# Altium integrated library Transistor.IntLib: 3457 symbols (part 50 of 78)
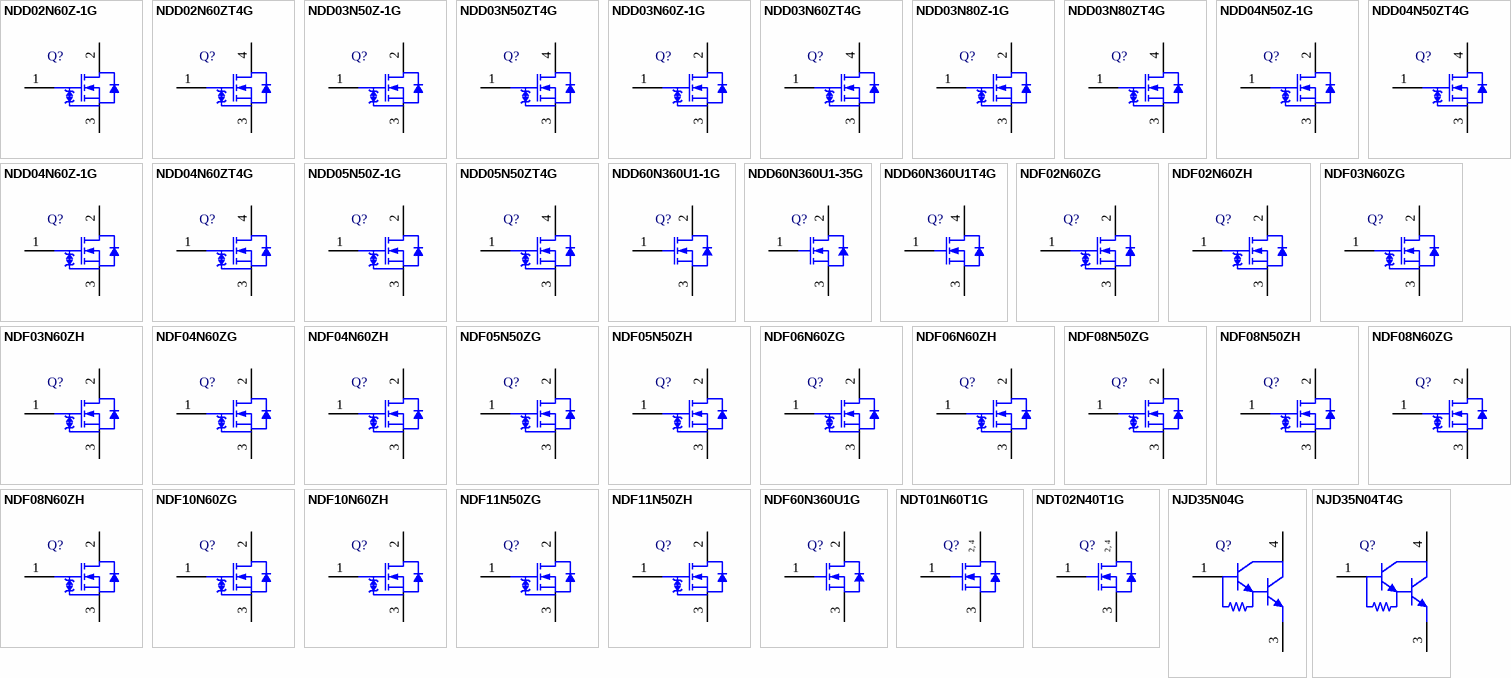
[diagram p143: symbols NDD02N60Z-1G to NJD35N04T4G]

## NDF04N60ZG
designator Q?
N-Channel Power MOSFET 600 V, 2 Ohm, 3-Pin TO-220, Pb-Free, Tube; Manufacturer: On Semiconductor; PartNumber: NDF04N60ZG; Channel Polarity: N Channel; Ciss Typ (pF): 535; Configuration: Single; Coss Typ (pF): 62; Crss Typ (pF): 14; PD Max (W): 30; Qrr Typ (nC): 1300; V(BR)DSS Min (V): 600; VGS(th) Max (V): 4.5; DatasheetVersion: Rev. 8; PackageVersion: Rev. K, 02/2009; PackageReference: TO-220-3-221D-03; PackageDescription: 3-Pin Flange Mount, Vertical Straight Lead, Body 10.295 x 4.7 mm, Pitch 2.54 mm; Package Type: TO-220 FULLPAK-3; Packing: Tube; RoHS: Pb-Free; VGS Max (V): 30; Mounting Technology: Through Hole; ComponentLink1Description: Manufacturer URL; ComponentLink1URL: http://www.onsemi.com/; ComponentLink2Description: Datasheet; ComponentLink2URL: http://www.onsemi.cn/pub_link/Collateral/NDF04N60Z-D.PDF; ComponentLink3Description: Package Specification; ComponentLink3URL: http://www.onsemi.com/pub_link/Collateral/221D-03.PDF
footprint ONSC-TO-220-3-221D-03 (FM, 3-Leads, Body 10.65x4.9mm, Pitch 2.54mm)
pins: 1 G, 2 D, 3 S

## NDF04N60ZH
designator Q?
N-Channel Power MOSFET 600 V, 2 Ohm, 3-Pin TO-220, Pb-Free, Tube; Manufacturer: On Semiconductor; PartNumber: NDF04N60ZH; Channel Polarity: N Channel; Ciss Typ (pF): 535; Configuration: Single; Coss Typ (pF): 62; Crss Typ (pF): 14; PD Max (W): 30; Qrr Typ (nC): 1300; V(BR)DSS Min (V): 600; VGS(th) Max (V): 4.5; DatasheetVersion: Rev. 8; PackageVersion: Rev. E, 04/2013; PackageReference: TO-220-3-221AH; PackageDescription: 3-Pin Flange Mount, Vertical Straight Lead, Body 10 x 4.5 mm, Pitch 2.54 mm; Package Type: TO-220 FULLPAK-3; Packing: Tube; RoHS: Pb-Free; VGS Max (V): 30; Mounting Technology: Through Hole; ComponentLink1Description: Manufacturer URL; ComponentLink1URL: http://www.onsemi.com/; ComponentLink2Description: Datasheet; ComponentLink2URL: http://www.onsemi.cn/pub_link/Collateral/NDF04N60Z-D.PDF; ComponentLink3Description: Package Specification; ComponentLink3URL: http://www.onsemi.com/pub_link/Collateral/221AH.PDF
footprint ONSC-TO-220-3-221AH (FM, 3-Leads, Body 10.3x4.7mm, Pitch 2.54mm)
pins: 1 G, 2 D, 3 S

## NDF05N50ZG
designator Q?
N-Channel Power MOSFET, 500 V, 1.5 Ohm, 3-Pin TO-220, Pb-Free, Tube; Manufacturer: On Semiconductor; PartNumber: NDF05N50ZG; Channel Polarity: N Channel; Ciss Typ (pF): 530; Configuration: Single; Coss Typ (pF): 68; Crss Typ (pF): 15; PD Max (W): 30; Qrr Typ (nC): 1250; V(BR)DSS Min (V): 500; VGS(th) Max (V): 4.5; DatasheetVersion: Rev. 7; PackageVersion: Rev. K, 02/2009; PackageReference: TO-220-3-221D-03; PackageDescription: 3-Pin Flange Mount, Vertical Straight Lead, Body 10.295 x 4.7 mm, Pitch 2.54 mm; Package Type: TO-220 FULLPAK-3; Packing: Tube; RoHS: Pb-Free; VGS Max (V): 30; Mounting Technology: Through Hole; ComponentLink1Description: Manufacturer URL; ComponentLink1URL: http://www.onsemi.com/; ComponentLink2Description: Datasheet; ComponentLink2URL: http://www.onsemi.cn/pub_link/Collateral/NDF05N50Z-D.PDF; ComponentLink3Description: Package Specification; ComponentLink3URL: http://www.onsemi.com/pub_link/Collateral/221D-03.PDF
footprint ONSC-TO-220-3-221D-03 (FM, 3-Leads, Body 10.65x4.9mm, Pitch 2.54mm)
pins: 1 G, 2 D, 3 S

## NDF05N50ZH
designator Q?
N-Channel Power MOSFET, 500 V, 1.5 Ohm, 3-Pin TO-220, Pb-Free, Tube; Manufacturer: On Semiconductor; PartNumber: NDF05N50ZH; Channel Polarity: N Channel; Ciss Typ (pF): 530; Configuration: Single; Coss Typ (pF): 68; Crss Typ (pF): 15; PD Max (W): 30; Qrr Typ (nC): 1250; V(BR)DSS Min (V): 500; VGS(th) Max (V): 4.5; DatasheetVersion: Rev. 7; PackageVersion: Rev. E, 04/2013; PackageReference: TO-220-3-221AH; PackageDescription: 3-Pin Flange Mount, Vertical Straight Lead, Body 10 x 4.5 mm, Pitch 2.54 mm; Package Type: TO-220 FULLPAK-3; Packing: Tube; RoHS: Pb-Free; VGS Max (V): 30; Mounting Technology: Through Hole; ComponentLink1Description: Manufacturer URL; ComponentLink1URL: http://www.onsemi.com/; ComponentLink2Description: Datasheet; ComponentLink2URL: http://www.onsemi.cn/pub_link/Collateral/NDF05N50Z-D.PDF; ComponentLink3Description: Package Specification; ComponentLink3URL: http://www.onsemi.com/pub_link/Collateral/221AH.PDF
footprint ONSC-TO-220-3-221AH (FM, 3-Leads, Body 10.3x4.7mm, Pitch 2.54mm)
pins: 1 G, 2 D, 3 S

## NDF06N60ZG
designator Q?
N-Channel Power MOSFET 600 V, 1.2 Ohm, 3-Pin TO-220, Pb-Free, Tube; Manufacturer: On Semiconductor; PartNumber: NDF06N60ZG; Channel Polarity: N Channel; Ciss Typ (pF): 923; Configuration: Single; Coss Typ (pF): 106; Crss Typ (pF): 23; PD Max (W): 35; Qrr Typ (nC): 2000; V(BR)DSS Min (V): 600; VGS Max (V): 30; VGS(th) Max (V): 4.5; DatasheetVersion: Rev. 6; PackageVersion: Rev. K, 02/2009; PackageReference: TO-220-3-221D-03; PackageDescription: 3-Pin Flange Mount, Vertical Straight Lead, Body 10.295 x 4.7 mm, Pitch 2.54 mm; Package Type: TO-220 FULLPAK-3; Packing: Tube; RoHS: Pb-Free; Mounting Technology: Through Hole; ComponentLink1Description: Manufacturer URL; ComponentLink1URL: http://www.onsemi.com/; ComponentLink2Description: Datasheet; ComponentLink2URL: http://www.onsemi.cn/pub_link/Collateral/NDF06N60Z-D.PDF; ComponentLink3Description: Package Specification; ComponentLink3URL: http://www.onsemi.com/pub_link/Collateral/221D-03.PDF
footprint ONSC-TO-220-3-221D-03 (FM, 3-Leads, Body 10.65x4.9mm, Pitch 2.54mm)
pins: 1 G, 2 D, 3 S

## NDF06N60ZH
designator Q?
N-Channel Power MOSFET 600 V, 1.2 Ohm, 3-Pin TO-220, Pb-Free, Tube; Manufacturer: On Semiconductor; PartNumber: NDF06N60ZH; Channel Polarity: N Channel; Ciss Typ (pF): 923; Configuration: Single; Coss Typ (pF): 106; Crss Typ (pF): 23; PD Max (W): 35; Qrr Typ (nC): 2000; V(BR)DSS Min (V): 600; VGS Max (V): 30; VGS(th) Max (V): 4.5; DatasheetVersion: Rev. 6; PackageVersion: Rev. E, 04/2013; PackageReference: TO-220-3-221AH; PackageDescription: 3-Pin Flange Mount, Vertical Straight Lead, Body 10 x 4.5 mm, Pitch 2.54 mm; Package Type: TO-220 FULLPAK-3; Packing: Tube; RoHS: Pb-Free; Mounting Technology: Through Hole; ComponentLink1Description: Manufacturer URL; ComponentLink1URL: http://www.onsemi.com/; ComponentLink2Description: Datasheet; ComponentLink2URL: http://www.onsemi.cn/pub_link/Collateral/NDF06N60Z-D.PDF; ComponentLink3Description: Package Specification; ComponentLink3URL: http://www.onsemi.com/pub_link/Collateral/221AH.PDF
footprint ONSC-TO-220-3-221AH (FM, 3-Leads, Body 10.3x4.7mm, Pitch 2.54mm)
pins: 1 G, 2 D, 3 S

## NDF08N50ZG
designator Q?
N-Channel Power MOSFET 500 V, 0.85 Ohm, 3-Pin TO-220, Pb-Free, Tube; Manufacturer: On Semiconductor; PartNumber: NDF08N50ZG; Channel Polarity: N Channel; Ciss Typ (pF): 912; Configuration: Single; Coss Typ (pF): 120; Crss Typ (pF): 27; PD Max (W): 35; Qrr Typ (nC): 1850; V(BR)DSS Min (V): 500; VGS Max (V): 30; VGS(th) Max (V): 4.5; DatasheetVersion: Rev. 5; PackageVersion: Rev. K, 02/2009; PackageReference: TO-220-3-221D-03; PackageDescription: 3-Pin Flange Mount, Vertical Straight Lead, Body 10.295 x 4.7 mm, Pitch 2.54 mm; Package Type: TO-220 FULLPAK-3; Packing: Tube; RoHS: Pb-Free; Mounting Technology: Through Hole; ComponentLink1Description: Manufacturer URL; ComponentLink1URL: http://www.onsemi.com/; ComponentLink2Description: Datasheet; ComponentLink2URL: http://www.onsemi.cn/pub_link/Collateral/NDF08N50Z-D.PDF; ComponentLink3Description: Package Specification; ComponentLink3URL: http://www.onsemi.com/pub_link/Collateral/221D-03.PDF
footprint ONSC-TO-220-3-221D-03 (FM, 3-Leads, Body 10.65x4.9mm, Pitch 2.54mm)
pins: 1 G, 2 D, 3 S

## NDF08N50ZH
designator Q?
N-Channel Power MOSFET 500 V, 0.85 Ohm, 3-Pin TO-220, Pb-Free, Tube; Manufacturer: On Semiconductor; PartNumber: NDF08N50ZH; Channel Polarity: N Channel; Ciss Typ (pF): 912; Configuration: Single; Coss Typ (pF): 120; Crss Typ (pF): 27; PD Max (W): 35; Qrr Typ (nC): 1850; V(BR)DSS Min (V): 500; VGS Max (V): 30; VGS(th) Max (V): 4.5; DatasheetVersion: Rev. 5; PackageVersion: Rev. E, 04/2013; PackageReference: TO-220-3-221AH; PackageDescription: 3-Pin Flange Mount, Vertical Straight Lead, Body 10 x 4.5 mm, Pitch 2.54 mm; Package Type: TO-220 FULLPAK-3; Packing: Tube; RoHS: Pb-Free; Mounting Technology: Through Hole; ComponentLink1Description: Manufacturer URL; ComponentLink1URL: http://www.onsemi.com/; ComponentLink2Description: Datasheet; ComponentLink2URL: http://www.onsemi.cn/pub_link/Collateral/NDF08N50Z-D.PDF; ComponentLink3Description: Package Specification; ComponentLink3URL: http://www.onsemi.com/pub_link/Collateral/221AH.PDF
footprint ONSC-TO-220-3-221AH (FM, 3-Leads, Body 10.3x4.7mm, Pitch 2.54mm)
pins: 1 G, 2 D, 3 S

## NDF08N60ZG
designator Q?
N-Channel Power MOSFET 600 V, 0.95 Ohm, 3-Pin TO-220, Pb-Free, Tube; Manufacturer: On Semiconductor; PartNumber: NDF08N60ZG; Channel Polarity: N Channel; Ciss Typ (pF): 1140; Configuration: Single; Coss Typ (pF): 129; Crss Typ (pF): 30; PD Max (W): 36; Qrr Typ (nC): 2200; V(BR)DSS Min (V): 600; VGS(th) Max (V): 4.5; DatasheetVersion: Rev. 3; PackageVersion: Rev. K, 02/2009; PackageReference: TO-220-3-221D-03; PackageDescription: 3-Pin Flange Mount, Vertical Straight Lead, Body 10.295 x 4.7 mm, Pitch 2.54 mm; Package Type: TO-220 FULLPAK-3; Packing: Tube; RoHS: Pb-Free; VGS Max (V): 30; Mounting Technology: Through Hole; ComponentLink1Description: Manufacturer URL; ComponentLink1URL: http://www.onsemi.com/; ComponentLink2Description: Datasheet; ComponentLink2URL: http://www.onsemi.cn/pub_link/Collateral/NDF08N60Z-D.PDF; ComponentLink3Description: Package Specification; ComponentLink3URL: http://www.onsemi.com/pub_link/Collateral/221D-03.PDF
footprint ONSC-TO-220-3-221D-03 (FM, 3-Leads, Body 10.65x4.9mm, Pitch 2.54mm)
pins: 1 G, 2 D, 3 S

## NDF08N60ZH
designator Q?
N-Channel Power MOSFET 600 V, 0.95 Ohm, 3-Pin TO-220, Pb-Free, Tube; Manufacturer: On Semiconductor; PartNumber: NDF08N60ZH; Channel Polarity: N Channel; Ciss Typ (pF): 1140; Configuration: Single; Coss Typ (pF): 129; Crss Typ (pF): 30; PD Max (W): 36; Qrr Typ (nC): 2200; V(BR)DSS Min (V): 600; VGS(th) Max (V): 4.5; DatasheetVersion: Rev. 3; PackageVersion: Rev. E, 04/2013; PackageReference: TO-220-3-221AH; PackageDescription: 3-Pin Flange Mount, Vertical Straight Lead, Body 10 x 4.5 mm, Pitch 2.54 mm; Package Type: TO-220 FULLPAK-3; Packing: Tube; RoHS: Pb-Free; VGS Max (V): 30; Mounting Technology: Through Hole; ComponentLink1Description: Manufacturer URL; ComponentLink1URL: http://www.onsemi.com/; ComponentLink2Description: Datasheet; ComponentLink2URL: http://www.onsemi.cn/pub_link/Collateral/NDF08N60Z-D.PDF; ComponentLink3Description: Package Specification; ComponentLink3URL: http://www.onsemi.com/pub_link/Collateral/221AH.PDF
footprint ONSC-TO-220-3-221AH (FM, 3-Leads, Body 10.3x4.7mm, Pitch 2.54mm)
pins: 1 G, 2 D, 3 S

## NDF10N60ZG
designator Q?
N-Channel Power MOSFET 600 V, 0.75 Ohm, 3-Pin TO-220, Pb-Free, Tube; Manufacturer: On Semiconductor; PartNumber: NDF10N60ZG; Channel Polarity: N Channel; Ciss Typ (pF): 1373; Configuration: Single; Coss Typ (pF): 150; Crss Typ (pF): 35; PD Max (W): 39; Qrr Typ (nC): 3000; V(BR)DSS Min (V): 600; VGS Max (V): 30; VGS(th) Max (V): 4.5; DatasheetVersion: Rev. 12; PackageVersion: Rev. K, 02/2009; PackageReference: TO-220-3-221D-03; PackageDescription: 3-Pin Flange Mount, Vertical Straight Lead, Body 10.295 x 4.7 mm, Pitch 2.54 mm; Package Type: TO-220 FULLPAK-3; Packing: Tube; RoHS: Pb-Free; Mounting Technology: Through Hole; ComponentLink1Description: Manufacturer URL; ComponentLink1URL: http://www.onsemi.com/; ComponentLink2Description: Datasheet; ComponentLink2URL: http://www.onsemi.cn/pub_link/Collateral/NDF10N60Z-D.PDF; ComponentLink3Description: Package Specification; ComponentLink3URL: http://www.onsemi.com/pub_link/Collateral/221D-03.PDF
footprint ONSC-TO-220-3-221D-03 (FM, 3-Leads, Body 10.65x4.9mm, Pitch 2.54mm)
pins: 1 G, 2 D, 3 S

## NDF10N60ZH
designator Q?
N-Channel Power MOSFET 600 V, 0.75 Ohm, 3-Pin TO-220, Pb-Free, Tube; Manufacturer: On Semiconductor; PartNumber: NDF10N60ZH; Channel Polarity: N Channel; Ciss Typ (pF): 1373; Configuration: Single; Coss Typ (pF): 150; Crss Typ (pF): 35; PD Max (W): 39; Qrr Typ (nC): 3000; V(BR)DSS Min (V): 600; VGS Max (V): 30; VGS(th) Max (V): 4.5; DatasheetVersion: Rev. 12; PackageVersion: Rev. E, 04/2013; PackageReference: TO-220-3-221AH; PackageDescription: 3-Pin Flange Mount, Vertical Straight Lead, Body 10 x 4.5 mm, Pitch 2.54 mm; Package Type: TO-220 FULLPAK-3; Packing: Tube; RoHS: Pb-Free; Mounting Technology: Through Hole; ComponentLink1Description: Manufacturer URL; ComponentLink1URL: http://www.onsemi.com/; ComponentLink2Description: Datasheet; ComponentLink2URL: http://www.onsemi.cn/pub_link/Collateral/NDF10N60Z-D.PDF; ComponentLink3Description: Package Specification; ComponentLink3URL: http://www.onsemi.com/pub_link/Collateral/221AH.PDF
footprint ONSC-TO-220-3-221AH (FM, 3-Leads, Body 10.3x4.7mm, Pitch 2.54mm)
pins: 1 G, 2 D, 3 S

## NDF11N50ZG
designator Q?
N-Channel Power MOSFET 500 V, 0.52 Ohm, 3-Pin TO-220, Pb-Free, Tube; Manufacturer: On Semiconductor; PartNumber: NDF11N50ZG; Channel Polarity: N Channel; Ciss Typ (pF): 1375; Configuration: Single; Coss Typ (pF): 166; Crss Typ (pF): 40; PD Max (W): 39; Qrr Typ (nC): 2500; V(BR)DSS Min (V): 500; VGS Max (V): 30; VGS(th) Max (V): 4.5; DatasheetVersion: Rev. 4; PackageVersion: Rev. K, 02/2009; PackageReference: TO-220-3-221D-03; PackageDescription: 3-Pin Flange Mount, Vertical Straight Lead, Body 10.295 x 4.7 mm, Pitch 2.54 mm; Package Type: TO-220 FULLPAK-3; Packing: Tube; RoHS: Pb-Free; Mounting Technology: Through Hole; ComponentLink1Description: Manufacturer URL; ComponentLink1URL: http://www.onsemi.com/; ComponentLink2Description: Datasheet; ComponentLink2URL: http://www.onsemi.cn/pub_link/Collateral/NDF11N50Z-D.PDF; ComponentLink3Description: Package Specification; ComponentLink3URL: http://www.onsemi.com/pub_link/Collateral/221D-03.PDF
footprint ONSC-TO-220-3-221D-03 (FM, 3-Leads, Body 10.65x4.9mm, Pitch 2.54mm)
pins: 1 G, 2 D, 3 S

## NDF11N50ZH
designator Q?
N-Channel Power MOSFET 500 V, 0.52 Ohm, 3-Pin TO-220, Pb-Free, Tube; Manufacturer: On Semiconductor; PartNumber: NDF11N50ZH; Channel Polarity: N Channel; Ciss Typ (pF): 1375; Configuration: Single; Coss Typ (pF): 166; Crss Typ (pF): 40; PD Max (W): 39; Qrr Typ (nC): 2500; V(BR)DSS Min (V): 500; VGS Max (V): 30; VGS(th) Max (V): 4.5; DatasheetVersion: Rev. 4; PackageVersion: Rev. E, 04/2013; PackageReference: TO-220-3-221AH; PackageDescription: 3-Pin Flange Mount, Vertical Straight Lead, Body 10 x 4.5 mm, Pitch 2.54 mm; Package Type: TO-220 FULLPAK-3; Packing: Tube; RoHS: Pb-Free; Mounting Technology: Through Hole; ComponentLink1Description: Manufacturer URL; ComponentLink1URL: http://www.onsemi.com/; ComponentLink2Description: Datasheet; ComponentLink2URL: http://www.onsemi.cn/pub_link/Collateral/NDF11N50Z-D.PDF; ComponentLink3Description: Package Specification; ComponentLink3URL: http://www.onsemi.com/pub_link/Collateral/221AH.PDF
footprint ONSC-TO-220-3-221AH (FM, 3-Leads, Body 10.3x4.7mm, Pitch 2.54mm)
pins: 1 G, 2 D, 3 S

## NDF60N360U1G
designator Q?
N-Channel Power MOSFET, 600 V, 360 mOhm, 3-Pin TO-220, Pb-Free, Tube; Manufacturer: On Semiconductor; PartNumber: NDF60N360U1G; Channel Polarity: N Channel; Ciss Typ (pF): 790; Configuration: Single; Coss Typ (pF): 47; Crss Typ (pF): 3; PD Max (W): 30; Qrr Typ (nC): 3600; V(BR)DSS Min (V): 600; VGS Max (V): 25; VGS(th) Max (V): 4; DatasheetVersion: Rev. 0; PackageVersion: Rev. E, 04/2013; PackageReference: TO-220-3-221AH; PackageDescription: 3-Pin Flange Mount, Vertical Straight Lead, Body 10 x 4.5 mm, Pitch 2.54 mm; Package Type: DPAK-3, IPAK-3, IPAK-4; Packing: Tube; RoHS: Pb-Free; Mounting Technology: Through Hole; ComponentLink1Description: Manufacturer URL; ComponentLink1URL: http://www.onsemi.com/; ComponentLink2Description: Datasheet; ComponentLink2URL: http://www.onsemi.com/pub_link/Collateral/NDF60N360U1-D.PDF; ComponentLink3Description: Package Specification; ComponentLink3URL: http://www.onsemi.com/pub_link/Collateral/221AH.PDF
footprint ONSC-TO-220-3-221AH (FM, 3-Leads, Body 10.3x4.7mm, Pitch 2.54mm)
pins: 1 G, 2 D, 3 S

## NDT01N60T1G
designator Q?
N-Channel Power MOSFET, 600 V, 8.5 Ohm, 4-Pin SOT-223, Pb-Free, Tape and Reel; Manufacturer: On Semiconductor; PartNumber: NDT01N60T1G; Channel Polarity: N Channel; Ciss Typ (pF): 160; Configuration: Single; Coss Typ (pF): 22; Crss Typ (pF): 4; PD Max (W): 2.5; Qrr Typ (nC): 288; V(BR)DSS Min (V): 600; VGS Max (V): 30; VGS(th) Max (V): 3.7; DatasheetVersion: Rev. 2; PackageVersion: Rev. N, 08/2009; PackageReference: SOT-223-4-318E-04; PackageDescription: 4-Pin Small Outline Transistor, Body 6.5 x 3.5 mm, Pitch 2.3 mm; Package Type: SOT-223-4 / TO-261-4; Packing: Tape and Reel; RoHS: Pb-Free; Mounting Technology: Surface Mount; ComponentLink1Description: Manufacturer URL; ComponentLink1URL: http://www.onsemi.com/; ComponentLink2Description: Datasheet; ComponentLink2URL: http://www.onsemi.cn/pub_link/Collateral/NDD01N60-D.PDF; ComponentLink3Description: Package Specification; ComponentLink3URL: http://www.onsemi.com/pub_link/Collateral/318E-04.PDF
footprint ONSC-SOT-223-4-318E-04_V (SOT223, 4-Leads, Body 6.5x3.5mm, Pitch 2.3mm)
pins: 1 G, 2 D, 3 S, 4 D
text: 2, 4

## NDT02N40T1G
designator Q?
N-Channel Power MOSFET, 400 V, 5.5 Ohm, 4-Pin SOT-223, Pb-Free, Tape and Reel; Manufacturer: On Semiconductor; PartNumber: NDT02N40T1G; Channel Polarity: N Channel; Ciss Typ (pF): 121; Configuration: Single; Coss Typ (pF): 16; Crss Typ (pF): 3; PD Max (W): 2; Qrr Typ (nC): 260; V(BR)DSS Min (V): 400; VGS Max (V): 20; DatasheetVersion: Rev. 3; PackageVersion: Rev. N, 08/2009; PackageReference: SOT-223-4-318E-04; PackageDescription: 4-Pin Small Outline Transistor, Body 6.5 x 3.5 mm, Pitch 2.3 mm; Supplier 1: Newark; Supplier Part Number 1: 97W6248; Supplier 2: Mouser; Supplier Part Number 2: 863-NDT02N40T1G; Package Type: SOT-223-4 / TO-261-4; Packing: Tape and Reel; RoHS: Pb-Free; VGS(th) Max (V): 2; Mounting Technology: Surface Mount; ComponentLink1Description: Manufacturer URL; ComponentLink1URL: http://www.onsemi.com/; ComponentLink2Description: Datasheet; ComponentLink2URL: http://www.onsemi.com/pub_link/Collateral/NDD02N40-D.PDF; ComponentLink3Description: Package Specification; ComponentLink3URL: http://www.onsemi.com/pub_link/Collateral/318E-04.PDF
footprint ONSC-SOT-223-4-318E-04_V (SOT223, 4-Leads, Body 6.5x3.5mm, Pitch 2.3mm)
pins: 1 G, 2 D, 3 S, 4 D
text: 2, 4

## NJD35N04G
designator Q?
NPN Darlington Power Transistor, 3-Pin D2PAK, Pb-Free, Tube; Manufacturer: On Semiconductor; PartNumber: NJD35N04G; IC Continuous (A): 4; DatasheetVersion: Rev. 5; PackageVersion: Rev. E, 02/2014; PackageReference: DPAK-3-369C-01; PackageDescription: 3-Pin Flange Mount, Body 6.54 x 6.095 mm, Pitch 2.29 mm; Supplier 1: Digi-Key; Supplier Part Number 1: NJD35N04GOS-ND; Supplier 2: Farnell; Supplier Part Number 2: 1899297; Supplier 3: Newark; Supplier Part Number 3: 02M9866; Supplier 4: Mouser; Supplier Part Number 4: 863-NJD35N04G; Packing: Tube; Polarity: NPN; RoHS: TRUE; Mounting Technology: Surface Mount; ComponentLink1Description: Manufacturer URL; ComponentLink1URL: http://www.onsemi.com/; ComponentLink2Description: Datasheet; ComponentLink2URL: http://www.onsemi.cn/pub_link/Collateral/NJD35N04-D.PDF; ComponentLink3Description: Package Specification; ComponentLink3URL: http://www.onsemi.cn/pub_link/Collateral/369C.PDF
footprint ONSC-DPAK-3-369C-01_V (DPAK, 3-Leads, Body 6.54x6.095mm, Pitch 2.29mm)
pins: 1 B, 3 E, 4 C

## NJD35N04T4G
designator Q?
NPN Darlington Power Transistor, 3-Pin D2PAK, Pb-Free, Tape and Reel; Manufacturer: On Semiconductor; PartNumber: NJD35N04T4G; IC Continuous (A): 4; DatasheetVersion: Rev. 5; PackageVersion: Rev. E, 02/2014; PackageReference: DPAK-3-369C-01; PackageDescription: 3-Pin Flange Mount, Body 6.54 x 6.095 mm, Pitch 2.29 mm; Supplier 1: Digi-Key; Supplier Part Number 1: NJD35N04T4G-ND; Supplier 2: Newark; Supplier Part Number 2: 02M9867; Supplier 3: Mouser; Supplier Part Number 3: 863-NJD35N04T4G; Packing: Tape and Reel; Polarity: NPN; RoHS: TRUE; Mounting Technology: Surface Mount; ComponentLink1Description: Manufacturer URL; ComponentLink1URL: http://www.onsemi.com/; ComponentLink2Description: Datasheet; ComponentLink2URL: http://www.onsemi.cn/pub_link/Collateral/NJD35N04-D.PDF; ComponentLink3Description: Package Specification; ComponentLink3URL: http://www.onsemi.cn/pub_link/Collateral/369C.PDF
footprint ONSC-DPAK-3-369C-01_V (DPAK, 3-Leads, Body 6.54x6.095mm, Pitch 2.29mm)
pins: 1 B, 3 E, 4 C

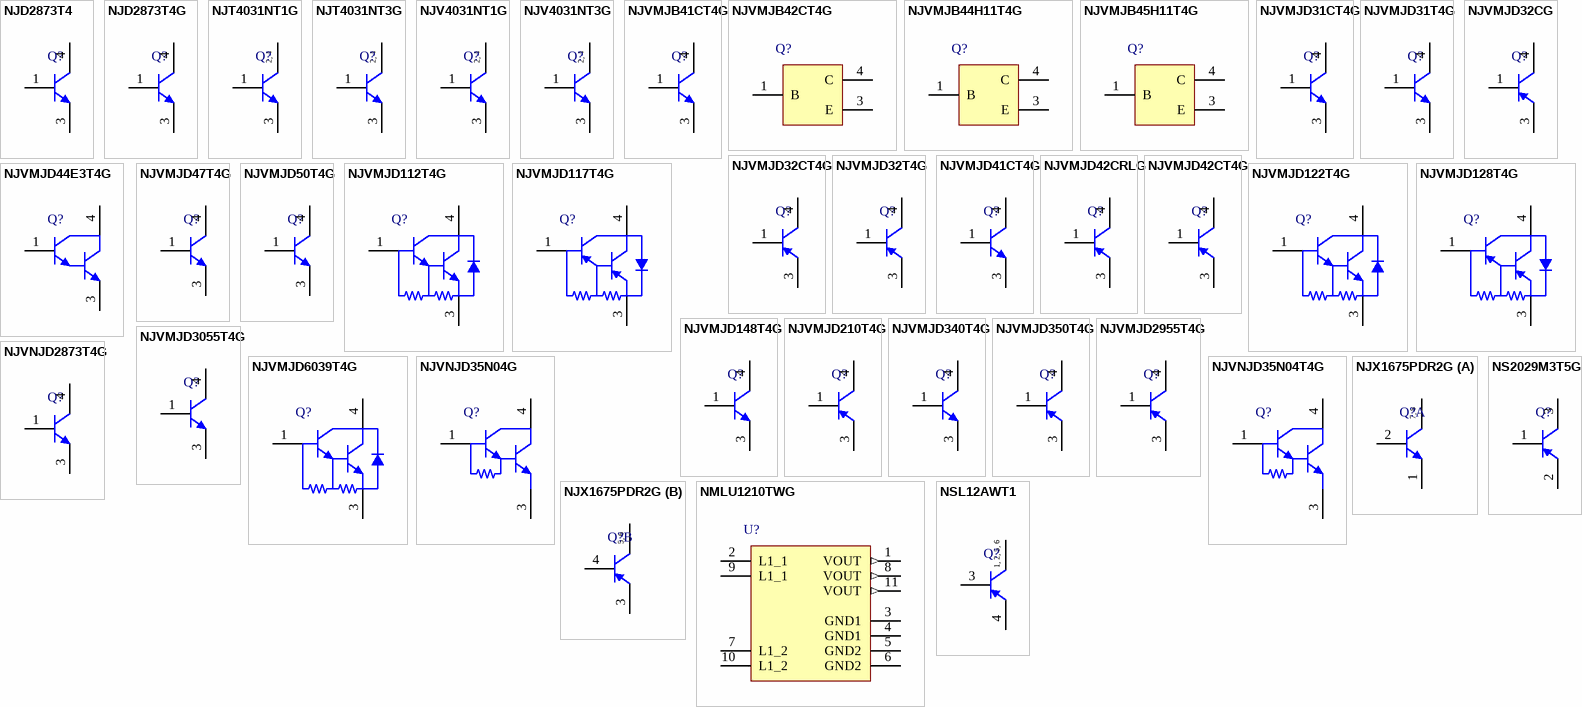
[diagram p59: symbols NJD2873T4 to NSL12AWT1]

## NJD2873T4
designator Q?
Power Transistor, NPN Silicon for Surface Mount Application, 3-Pin DPAK, Tape and Reel; Manufacturer: On Semiconductor; PartNumber: NJD2873T4; Note: 0; fT Min (MHz): 65; IC Continuous (A): 2; DatasheetVersion: Rev. 15; PackageVersion: Rev. E, 02/2014; PackageReference: DPAK-3-369C-01; PackageDescription: 3-Pin Flange Mount, Body 6.54 x 6.095 mm, Pitch 2.29 mm; Packing: Tape and Reel; Polarity: NPN; RoHS: FALSE; Mounting Technology: Surface Mount; ComponentLink1Description: Manufacturer URL; ComponentLink1URL: http://www.onsemi.com/; ComponentLink2Description: Datasheet; ComponentLink2URL: http://www.onsemi.com/pub_link/Collateral/NJD2873T4-D.PDF; ComponentLink3Description: Package Specification; ComponentLink3URL: http://www.onsemi.cn/pub_link/Collateral/369C.PDF
footprint ONSC-DPAK-3-369C-01_V (DPAK, 3-Leads, Body 6.54x6.095mm, Pitch 2.29mm)
pins: 1 B, 3 E, 4 C

## NJD2873T4G
designator Q?
Power Transistor, NPN Silicon for Surface Mount Application, 3-Pin DPAK, Pb-Free, Tape and Reel; Manufacturer: On Semiconductor; PartNumber: NJD2873T4G; fT Min (MHz): 65; IC Continuous (A): 2; DatasheetVersion: Rev. 15; PackageVersion: Rev. E, 02/2014; PackageReference: DPAK-3-369C-01; PackageDescription: 3-Pin Flange Mount, Body 6.54 x 6.095 mm, Pitch 2.29 mm; Supplier 1: Digi-Key; Supplier Part Number 1: NJD2873T4GOSTR-ND; Supplier 2: Digi-Key; Supplier Part Number 2: NJD2873T4GOSCT-ND; Supplier 3: Digi-Key; Supplier Part Number 3: NJD2873T4GOSDKR-ND; Supplier 4: Newark; Supplier Part Number 4: 83H7725; Supplier 5: Newark; Supplier Part Number 5: 54T9969; Supplier 6: Mouser; Supplier Part Number 6: 863-NJD2873T4G; Packing: Tape and Reel; Polarity: NPN; RoHS: TRUE; Mounting Technology: Surface Mount; ComponentLink1Description: Manufacturer URL; ComponentLink1URL: http://www.onsemi.com/; ComponentLink2Description: Datasheet; ComponentLink2URL: http://www.onsemi.com/pub_link/Collateral/NJD2873T4-D.PDF; ComponentLink3Description: Package Specification; ComponentLink3URL: http://www.onsemi.cn/pub_link/Collateral/369C.PDF
footprint ONSC-DPAK-3-369C-01_V (DPAK, 3-Leads, Body 6.54x6.095mm, Pitch 2.29mm)
pins: 1 B, 3 E, 4 C

## NJT4031NT1G
designator Q?
Bipolar Power Transistor, NPN Silicon, 4-Pin SOT-223, Pb-Free, Tape and Reel; Manufacturer: On Semiconductor; PartNumber: NJT4031NT1G; IC Continuous (A): 3; DatasheetVersion: Rev. 4; PackageVersion: Rev. N, 08/2009; PackageReference: SOT-223-4-318E-04; PackageDescription: 4-Pin Small Outline Transistor, Body 6.5 x 3.5 mm, Pitch 2.3 mm; Supplier 1: Digi-Key; Supplier Part Number 1: NJT4031NT1GOSTR-ND; Supplier 2: Digi-Key; Supplier Part Number 2: NJT4031NT1GOSCT-ND; Supplier 3: Digi-Key; Supplier Part Number 3: NJT4031NT1GOSDKR-ND; Supplier 4: Farnell; Supplier Part Number 4: 1517646; Supplier 5: Newark; Supplier Part Number 5: 57M9869; Supplier 6: Mouser; Supplier Part Number 6: 863-NJT4031NT1G; Packing: Tape and Reel; Polarity: NPN; RoHS: TRUE; Mounting Technology: Surface Mount; ComponentLink1Description: Manufacturer URL; ComponentLink1URL: http://www.onsemi.com/; ComponentLink2Description: Datasheet; ComponentLink2URL: http://www.onsemi.com/pub_link/Collateral/NJT4031N-D.PDF; ComponentLink3Description: Package Specification; ComponentLink3URL: http://www.onsemi.com/pub_link/Collateral/318E-04.PDF
footprint ONSC-SOT-223-4-318E-04_V (SOT223, 4-Leads, Body 6.5x3.5mm, Pitch 2.3mm)
pins: 1 B, 2 C, 3 E, 4 C
text: 2, 4

## NJT4031NT3G
designator Q?
Bipolar Power Transistor, NPN Silicon, 4-Pin SOT-223, Pb-Free, Tape and Reel; Manufacturer: On Semiconductor; PartNumber: NJT4031NT3G; IC Continuous (A): 3; DatasheetVersion: Rev. 4; PackageVersion: Rev. N, 08/2009; PackageReference: SOT-223-4-318E-04; PackageDescription: 4-Pin Small Outline Transistor, Body 6.5 x 3.5 mm, Pitch 2.3 mm; Supplier 1: Digi-Key; Supplier Part Number 1: NJT4031NT3G-ND; Supplier 2: Mouser; Supplier Part Number 2: 863-NJT4031NT3G; Packing: Tape and Reel; Polarity: NPN; RoHS: TRUE; Mounting Technology: Surface Mount; ComponentLink1Description: Manufacturer URL; ComponentLink1URL: http://www.onsemi.com/; ComponentLink2Description: Datasheet; ComponentLink2URL: http://www.onsemi.com/pub_link/Collateral/NJT4031N-D.PDF; ComponentLink3Description: Package Specification; ComponentLink3URL: http://www.onsemi.com/pub_link/Collateral/318E-04.PDF
footprint ONSC-SOT-223-4-318E-04_V (SOT223, 4-Leads, Body 6.5x3.5mm, Pitch 2.3mm)
pins: 1 B, 2 C, 3 E, 4 C
text: 2, 4

## NJV4031NT1G
designator Q?
Bipolar Power Transistor, NPN Silicon, 4-Pin SOT-223, Pb-Free, Tape and Reel; Manufacturer: On Semiconductor; PartNumber: NJV4031NT1G; IC Continuous (A): 3; DatasheetVersion: Rev. 4; PackageVersion: Rev. N, 08/2009; PackageReference: SOT-223-4-318E-04; PackageDescription: 4-Pin Small Outline Transistor, Body 6.5 x 3.5 mm, Pitch 2.3 mm; Supplier 1: Newark; Supplier Part Number 1: 97W6314; Supplier 2: Mouser; Supplier Part Number 2: 863-NJV4031NT1G; Packing: Tape and Reel; Polarity: NPN; RoHS: TRUE; Mounting Technology: Surface Mount; ComponentLink1Description: Manufacturer URL; ComponentLink1URL: http://www.onsemi.com/; ComponentLink2Description: Datasheet; ComponentLink2URL: http://www.onsemi.com/pub_link/Collateral/NJT4031N-D.PDF; ComponentLink3Description: Package Specification; ComponentLink3URL: http://www.onsemi.com/pub_link/Collateral/318E-04.PDF
footprint ONSC-SOT-223-4-318E-04_V (SOT223, 4-Leads, Body 6.5x3.5mm, Pitch 2.3mm)
pins: 1 B, 2 C, 3 E, 4 C
text: 2, 4

## NJV4031NT3G
designator Q?
Bipolar Power Transistor, NPN Silicon, 4-Pin SOT-223, Pb-Free, Tape and Reel; Manufacturer: On Semiconductor; PartNumber: NJV4031NT3G; IC Continuous (A): 3; DatasheetVersion: Rev. 4; PackageVersion: Rev. N, 08/2009; PackageReference: SOT-223-4-318E-04; PackageDescription: 4-Pin Small Outline Transistor, Body 6.5 x 3.5 mm, Pitch 2.3 mm; Supplier 1: Newark; Supplier Part Number 1: 97W6315; Supplier 2: Mouser; Supplier Part Number 2: 863-NJV4031NT3G; Packing: Tape and Reel; Polarity: NPN; RoHS: TRUE; Mounting Technology: Surface Mount; ComponentLink1Description: Manufacturer URL; ComponentLink1URL: http://www.onsemi.com/; ComponentLink2Description: Datasheet; ComponentLink2URL: http://www.onsemi.com/pub_link/Collateral/NJT4031N-D.PDF; ComponentLink3Description: Package Specification; ComponentLink3URL: http://www.onsemi.com/pub_link/Collateral/318E-04.PDF
footprint ONSC-SOT-223-4-318E-04_V (SOT223, 4-Leads, Body 6.5x3.5mm, Pitch 2.3mm)
pins: 1 B, 2 C, 3 E, 4 C
text: 2, 4

## NJVMJB41CT4G
designator Q?
Complementary Silicon Plastic Power Transistor, 3-Pin D2PAK, Pb-Free, Tape and Reel; Manufacturer: On Semiconductor; PartNumber: NJVMJB41CT4G; fT Min (MHz): 3; IC Continuous (A): 6; Polarity: NPN; DatasheetVersion: Rev. 4; PackageVersion: Rev. K, 09/2008; PackageReference: D2PAK-3-418B-04; PackageDescription: 3-Pin Flange Mount, Body 9.145 x 9.97 mm, Pitch 2.54 mm; Supplier 1: Digi-Key; Supplier Part Number 1: NJVMJB41CT4G-ND; Supplier 2: Mouser; Supplier Part Number 2: 863-NJVMJB41CT4G; Packing: Tape and Reel; RoHS: TRUE; Mounting Technology: Surface Mount; ComponentLink1Description: Manufacturer URL; ComponentLink1URL: http://www.onsemi.com/; ComponentLink2Description: Datasheet; ComponentLink2URL: http://www.onsemi.com/pub_link/Collateral/MJB41C-D.PDF; ComponentLink3Description: Package Specification; ComponentLink3URL: http://www.onsemi.com/pub_link/Collateral/418B-04.PDF
footprint ONSC-D2PAK-3-418B-04_V (DPAK, 3-Leads, Body 9.97x9.145mm, Pitch 2.54mm)
pins: 1 B, 3 E, 4 C

## NJVMJB42CT4G
designator Q?
Complementary Silicon Plastic Power Transistor, 3-Pin D2PAK, Pb-Free, Tape and Reel; Manufacturer: On Semiconductor; PartNumber: NJVMJB42CT4G; fT Min (MHz): 3; IC Continuous (A): 6; Polarity: PNP; DatasheetVersion: Rev. 4; PackageVersion: Rev. K, 09/2008; PackageReference: D2PAK-3-418B-04; PackageDescription: 3-Pin Flange Mount, Body 9.145 x 9.97 mm, Pitch 2.54 mm; Supplier 1: Digi-Key; Supplier Part Number 1: NJVMJB42CT4G-ND; Supplier 2: Mouser; Supplier Part Number 2: 863-NJVMJB42CT4G; Packing: Tape and Reel; RoHS: TRUE; Mounting Technology: Surface Mount; ComponentLink1Description: Manufacturer URL; ComponentLink1URL: http://www.onsemi.com/; ComponentLink2Description: Datasheet; ComponentLink2URL: http://www.onsemi.com/pub_link/Collateral/MJB41C-D.PDF; ComponentLink3Description: Package Specification; ComponentLink3URL: http://www.onsemi.com/pub_link/Collateral/418B-04.PDF
footprint ONSC-D2PAK-3-418B-04_V (DPAK, 3-Leads, Body 9.97x9.145mm, Pitch 2.54mm)
pins: 1 B, 3 E, 4 C

## NJVMJB44H11T4G
designator Q?
Complementary Power Transistor, 3-Pin D2PAK, Pb-Free, Tape and Reel; Manufacturer: On Semiconductor; PartNumber: NJVMJB44H11T4G; IC Continuous (A): 10; Polarity: NPN; DatasheetVersion: Rev. 5; PackageVersion: Rev. K, 09/2008; PackageReference: D2PAK-3-418B-04; PackageDescription: 3-Pin Flange Mount, Body 9.145 x 9.97 mm, Pitch 2.54 mm; Supplier 1: Digi-Key; Supplier Part Number 1: NJVMJB44H11T4G-ND; Supplier 2: Mouser; Supplier Part Number 2: 863-NJVMJB44H11T4G; Packing: Tape and Reel; RoHS: TRUE; Mounting Technology: Surface Mount; ComponentLink1Description: Manufacturer URL; ComponentLink1URL: http://www.onsemi.com/; ComponentLink2Description: Datasheet; ComponentLink2URL: http://www.onsemi.com/pub_link/Collateral/MJB44H11-D.PDF; ComponentLink3Description: Package Specification; ComponentLink3URL: http://www.onsemi.com/pub_link/Collateral/418B-04.PDF
footprint ONSC-D2PAK-3-418B-04_V (DPAK, 3-Leads, Body 9.97x9.145mm, Pitch 2.54mm)
pins: 1 B, 3 E, 4 C

## NJVMJB45H11T4G
designator Q?
Complementary Power Transistor, 3-Pin D2PAK, Pb-Free, Tape and Reel; Manufacturer: On Semiconductor; PartNumber: NJVMJB45H11T4G; IC Continuous (A): 10; Polarity: PNP; DatasheetVersion: Rev. 5; PackageVersion: Rev. K, 09/2008; PackageReference: D2PAK-3-418B-04; PackageDescription: 3-Pin Flange Mount, Body 9.145 x 9.97 mm, Pitch 2.54 mm; Supplier 1: Digi-Key; Supplier Part Number 1: NJVMJB45H11T4G-ND; Supplier 2: Mouser; Supplier Part Number 2: 863-NJVMJB45H11T4G; Packing: Tape and Reel; RoHS: TRUE; Mounting Technology: Surface Mount; ComponentLink1Description: Manufacturer URL; ComponentLink1URL: http://www.onsemi.com/; ComponentLink2Description: Datasheet; ComponentLink2URL: http://www.onsemi.com/pub_link/Collateral/MJB44H11-D.PDF; ComponentLink3Description: Package Specification; ComponentLink3URL: http://www.onsemi.com/pub_link/Collateral/418B-04.PDF
footprint ONSC-D2PAK-3-418B-04_V (DPAK, 3-Leads, Body 9.97x9.145mm, Pitch 2.54mm)
pins: 1 B, 3 E, 4 C

## NJVMJD31CT4G
designator Q?
Complementary Power Transistor, 3-Pin DPAK, Pb-Free, Tape and Reel; Manufacturer: On Semiconductor; PartNumber: NJVMJD31CT4G; fT Min (MHz): 3; Polarity: NPN; DatasheetVersion: Rev. 13; PackageVersion: Rev. E, 02/2014; PackageReference: DPAK-3-369C-01; PackageDescription: 3-Pin Flange Mount, Body 6.54 x 6.095 mm, Pitch 2.29 mm; Supplier 1: Digi-Key; Supplier Part Number 1: NJVMJD31CT4GOSTR-ND; Supplier 2: Digi-Key; Supplier Part Number 2: NJVMJD31CT4GOSCT-ND; Supplier 3: Digi-Key; Supplier Part Number 3: NJVMJD31CT4GOSDKR-ND; Supplier 4: Farnell; Supplier Part Number 4: 2317567; Supplier 5: Newark; Supplier Part Number 5: 85W3174; Supplier 6: Newark; Supplier Part Number 6: 90W9283; Supplier 7: Newark; Supplier Part Number 7: 76T6460; Supplier 8: Mouser; Supplier Part Number 8: 863-NJVMJD31CT4G; IC Continuous (A): 3; Packing: Tape and Reel; RoHS: TRUE; Mounting Technology: Surface Mount; ComponentLink1Description: Manufacturer URL; ComponentLink1URL: http://www.onsemi.com/; ComponentLink2Description: Datasheet; ComponentLink2URL: http://www.onsemi.cn/pub_link/Collateral/MJD31-D.PDF; ComponentLink3Description: Package Specification; ComponentLink3URL: http://www.onsemi.cn/pub_link/Collateral/369C.PDF
footprint ONSC-DPAK-3-369C-01_V (DPAK, 3-Leads, Body 6.54x6.095mm, Pitch 2.29mm)
pins: 1 B, 3 E, 4 C

## NJVMJD31T4G
designator Q?
Complementary Power Transistor, 3-Pin DPAK, Pb-Free, Tape and Reel; Manufacturer: On Semiconductor; PartNumber: NJVMJD31T4G; fT Min (MHz): 3; Polarity: NPN; DatasheetVersion: Rev. 13; PackageVersion: Rev. E, 02/2014; PackageReference: DPAK-3-369C-01; PackageDescription: 3-Pin Flange Mount, Body 6.54 x 6.095 mm, Pitch 2.29 mm; Supplier 1: Newark; Supplier Part Number 1: 97W6308; Supplier 2: Mouser; Supplier Part Number 2: 863-NJVMJD31T4G; IC Continuous (A): 3; Packing: Tape and Reel; RoHS: TRUE; Mounting Technology: Surface Mount; ComponentLink1Description: Manufacturer URL; ComponentLink1URL: http://www.onsemi.com/; ComponentLink2Description: Datasheet; ComponentLink2URL: http://www.onsemi.cn/pub_link/Collateral/MJD31-D.PDF; ComponentLink3Description: Package Specification; ComponentLink3URL: http://www.onsemi.cn/pub_link/Collateral/369C.PDF
footprint ONSC-DPAK-3-369C-01_V (DPAK, 3-Leads, Body 6.54x6.095mm, Pitch 2.29mm)
pins: 1 B, 3 E, 4 C

## NJVMJD32CG
designator Q?
Complementary Power Transistor, 3-Pin DPAK, Pb-Free, Tube; Manufacturer: On Semiconductor; PartNumber: NJVMJD32CG; fT Min (MHz): 3; Polarity: PNP; DatasheetVersion: Rev. 13; PackageVersion: Rev. E, 02/2014; PackageReference: DPAK-3-369C-01; PackageDescription: 3-Pin Flange Mount, Body 6.54 x 6.095 mm, Pitch 2.29 mm; Supplier 1: Digi-Key; Supplier Part Number 1: NJVMJD32CG-ND; Supplier 2: Mouser; Supplier Part Number 2: 863-NJVMJD32CG; IC Continuous (A): 3; Packing: Tube; RoHS: TRUE; Mounting Technology: Surface Mount; ComponentLink1Description: Manufacturer URL; ComponentLink1URL: http://www.onsemi.com/; ComponentLink2Description: Datasheet; ComponentLink2URL: http://www.onsemi.cn/pub_link/Collateral/MJD31-D.PDF; ComponentLink3Description: Package Specification; ComponentLink3URL: http://www.onsemi.cn/pub_link/Collateral/369C.PDF
footprint ONSC-DPAK-3-369C-01_V (DPAK, 3-Leads, Body 6.54x6.095mm, Pitch 2.29mm)
pins: 1 B, 3 E, 4 C

## NJVMJD32CT4G
designator Q?
Complementary Power Transistor, 3-Pin DPAK, Pb-Free, Tape and Reel; Manufacturer: On Semiconductor; PartNumber: NJVMJD32CT4G; fT Min (MHz): 3; Polarity: PNP; DatasheetVersion: Rev. 13; PackageVersion: Rev. E, 02/2014; PackageReference: DPAK-3-369C-01; PackageDescription: 3-Pin Flange Mount, Body 6.54 x 6.095 mm, Pitch 2.29 mm; Supplier 1: Digi-Key; Supplier Part Number 1: NJVMJD32CT4G-ND; Supplier 2: Newark; Supplier Part Number 2: 65T1469; Supplier 3: Mouser; Supplier Part Number 3: 863-NJVMJD32CT4G; IC Continuous (A): 3; Packing: Tape and Reel; RoHS: TRUE; Mounting Technology: Surface Mount; ComponentLink1Description: Manufacturer URL; ComponentLink1URL: http://www.onsemi.com/; ComponentLink2Description: Datasheet; ComponentLink2URL: http://www.onsemi.cn/pub_link/Collateral/MJD31-D.PDF; ComponentLink3Description: Package Specification; ComponentLink3URL: http://www.onsemi.cn/pub_link/Collateral/369C.PDF
footprint ONSC-DPAK-3-369C-01_V (DPAK, 3-Leads, Body 6.54x6.095mm, Pitch 2.29mm)
pins: 1 B, 3 E, 4 C

## NJVMJD32T4G
designator Q?
Complementary Power Transistor, 3-Pin DPAK, Pb-Free, Tape and Reel; Manufacturer: On Semiconductor; PartNumber: NJVMJD32T4G; fT Min (MHz): 3; Polarity: PNP; DatasheetVersion: Rev. 13; PackageVersion: Rev. E, 02/2014; PackageReference: DPAK-3-369C-01; PackageDescription: 3-Pin Flange Mount, Body 6.54 x 6.095 mm, Pitch 2.29 mm; Supplier 1: Newark; Supplier Part Number 1: 97W6309; Supplier 2: Mouser; Supplier Part Number 2: 863-NJVMJD32T4G; IC Continuous (A): 3; Packing: Tape and Reel; RoHS: TRUE; Mounting Technology: Surface Mount; ComponentLink1Description: Manufacturer URL; ComponentLink1URL: http://www.onsemi.com/; ComponentLink2Description: Datasheet; ComponentLink2URL: http://www.onsemi.cn/pub_link/Collateral/MJD31-D.PDF; ComponentLink3Description: Package Specification; ComponentLink3URL: http://www.onsemi.cn/pub_link/Collateral/369C.PDF
footprint ONSC-DPAK-3-369C-01_V (DPAK, 3-Leads, Body 6.54x6.095mm, Pitch 2.29mm)
pins: 1 B, 3 E, 4 C

## NJVMJD41CT4G
designator Q?
Complementary Power Transistor, 3-Pin DPAK, Pb-Free, Tape and Reel; Manufacturer: On Semiconductor; PartNumber: NJVMJD41CT4G; fT Min (MHz): 3; IC Continuous (A): 6; Polarity: NPN; DatasheetVersion: Rev. 12; PackageVersion: Rev. E, 02/2014; PackageReference: DPAK-3-369C-01; PackageDescription: 3-Pin Flange Mount, Body 6.54 x 6.095 mm, Pitch 2.29 mm; Supplier 1: Digi-Key; Supplier Part Number 1: NJVMJD41CT4G-ND; Supplier 2: Newark; Supplier Part Number 2: 76T6464; Supplier 3: Mouser; Supplier Part Number 3: 863-NJVMJD41CT4G; Packing: Tape and Reel; RoHS: TRUE; Mounting Technology: Surface Mount; ComponentLink1Description: Manufacturer URL; ComponentLink1URL: http://www.onsemi.com/; ComponentLink2Description: Datasheet; ComponentLink2URL: http://www.onsemi.cn/pub_link/Collateral/MJD41C-D.PDF; ComponentLink3Description: Package Specification; ComponentLink3URL: http://www.onsemi.cn/pub_link/Collateral/369C.PDF
footprint ONSC-DPAK-3-369C-01_V (DPAK, 3-Leads, Body 6.54x6.095mm, Pitch 2.29mm)
pins: 1 B, 3 E, 4 C

## NJVMJD42CRLG
designator Q?
Complementary Power Transistor, 3-Pin DPAK, Pb-Free, Tape and Reel; Manufacturer: On Semiconductor; PartNumber: NJVMJD42CRLG; fT Min (MHz): 3; IC Continuous (A): 6; Polarity: PNP; DatasheetVersion: Rev. 12; PackageVersion: Rev. E, 02/2014; PackageReference: DPAK-3-369C-01; PackageDescription: 3-Pin Flange Mount, Body 6.54 x 6.095 mm, Pitch 2.29 mm; Supplier 1: Newark; Supplier Part Number 1: 97W6310; Supplier 2: Mouser; Supplier Part Number 2: 863-NJVMJD42CRLG; Packing: Tape and Reel; RoHS: TRUE; Mounting Technology: Surface Mount; ComponentLink1Description: Manufacturer URL; ComponentLink1URL: http://www.onsemi.com/; ComponentLink2Description: Datasheet; ComponentLink2URL: http://www.onsemi.cn/pub_link/Collateral/MJD41C-D.PDF; ComponentLink3Description: Package Specification; ComponentLink3URL: http://www.onsemi.cn/pub_link/Collateral/369C.PDF
footprint ONSC-DPAK-3-369C-01_V (DPAK, 3-Leads, Body 6.54x6.095mm, Pitch 2.29mm)
pins: 1 B, 3 E, 4 C

## NJVMJD42CT4G
designator Q?
Complementary Power Transistor, 3-Pin DPAK, Pb-Free, Tape and Reel; Manufacturer: On Semiconductor; PartNumber: NJVMJD42CT4G; fT Min (MHz): 3; IC Continuous (A): 6; Polarity: PNP; DatasheetVersion: Rev. 12; PackageVersion: Rev. E, 02/2014; PackageReference: DPAK-3-369C-01; PackageDescription: 3-Pin Flange Mount, Body 6.54 x 6.095 mm, Pitch 2.29 mm; Supplier 1: Digi-Key; Supplier Part Number 1: NJVMJD42CT4G-ND; Supplier 2: Mouser; Supplier Part Number 2: 863-NJVMJD42CT4G; Packing: Tape and Reel; RoHS: TRUE; Mounting Technology: Surface Mount; ComponentLink1Description: Manufacturer URL; ComponentLink1URL: http://www.onsemi.com/; ComponentLink2Description: Datasheet; ComponentLink2URL: http://www.onsemi.cn/pub_link/Collateral/MJD41C-D.PDF; ComponentLink3Description: Package Specification; ComponentLink3URL: http://www.onsemi.cn/pub_link/Collateral/369C.PDF
footprint ONSC-DPAK-3-369C-01_V (DPAK, 3-Leads, Body 6.54x6.095mm, Pitch 2.29mm)
pins: 1 B, 3 E, 4 C

## NJVMJD44E3T4G
designator Q?
Darlington Power Transistor, 3-Pin DPAK, Pb-Free, Tape and Reel; Manufacturer: On Semiconductor; PartNumber: NJVMJD44E3T4G; IC Continuous (A): 10; Polarity: NPN; DatasheetVersion: Rev. 10; PackageVersion: Rev. E, 02/2014; PackageReference: DPAK-3-369C-01; PackageDescription: 3-Pin Flange Mount, Body 6.54 x 6.095 mm, Pitch 2.29 mm; Supplier 1: Newark; Supplier Part Number 1: 97W6311; Supplier 2: Mouser; Supplier Part Number 2: 863-NJVMJD44E3T4G; Packing: Tape and Reel; RoHS: TRUE; Mounting Technology: Surface Mount; ComponentLink1Description: Manufacturer URL; ComponentLink1URL: http://www.onsemi.com/; ComponentLink2Description: Datasheet; ComponentLink2URL: http://www.onsemi.com/pub_link/Collateral/MJD44E3-D.PDF; ComponentLink3Description: Package Specification; ComponentLink3URL: http://www.onsemi.cn/pub_link/Collateral/369C.PDF
footprint ONSC-DPAK-3-369C-01_V (DPAK, 3-Leads, Body 6.54x6.095mm, Pitch 2.29mm)
pins: 1 B, 3 E, 4 C

## NJVMJD47T4G
designator Q?
High Voltage Power Transistor, 3-Pin DPAK, Pb-Free, Tape and Reel; Manufacturer: On Semiconductor; PartNumber: NJVMJD47T4G; fT Min (MHz): 10; IC Continuous (A): 1; Polarity: NPN; DatasheetVersion: Rev. 14; PackageVersion: Rev. E, 02/2014; PackageReference: DPAK-3-369C-01; PackageDescription: 3-Pin Flange Mount, Body 6.54 x 6.095 mm, Pitch 2.29 mm; Supplier 1: Digi-Key; Supplier Part Number 1: NJVMJD47T4G-ND; Supplier 2: Mouser; Supplier Part Number 2: 863-NJVMJD47T4G; Packing: Tape and Reel; RoHS: TRUE; Mounting Technology: Surface Mount; ComponentLink1Description: Manufacturer URL; ComponentLink1URL: http://www.onsemi.com/; ComponentLink2Description: Datasheet; ComponentLink2URL: http://www.onsemi.cn/pub_link/Collateral/MJD47-D.PDF; ComponentLink3Description: Package Specification; ComponentLink3URL: http://www.onsemi.cn/pub_link/Collateral/369C.PDF
footprint ONSC-DPAK-3-369C-01_V (DPAK, 3-Leads, Body 6.54x6.095mm, Pitch 2.29mm)
pins: 1 B, 3 E, 4 C

## NJVMJD50T4G
designator Q?
High Voltage Power Transistor, 3-Pin DPAK, Pb-Free, Tape and Reel; Manufacturer: On Semiconductor; PartNumber: NJVMJD50T4G; fT Min (MHz): 10; IC Continuous (A): 1; Polarity: NPN; DatasheetVersion: Rev. 14; PackageVersion: Rev. E, 02/2014; PackageReference: DPAK-3-369C-01; PackageDescription: 3-Pin Flange Mount, Body 6.54 x 6.095 mm, Pitch 2.29 mm; Supplier 1: Digi-Key; Supplier Part Number 1: NJVMJD50T4G-ND; Supplier 2: Mouser; Supplier Part Number 2: 863-NJVMJD50T4G; Packing: Tape and Reel; RoHS: TRUE; Mounting Technology: Surface Mount; ComponentLink1Description: Manufacturer URL; ComponentLink1URL: http://www.onsemi.com/; ComponentLink2Description: Datasheet; ComponentLink2URL: http://www.onsemi.cn/pub_link/Collateral/MJD47-D.PDF; ComponentLink3Description: Package Specification; ComponentLink3URL: http://www.onsemi.cn/pub_link/Collateral/369C.PDF
footprint ONSC-DPAK-3-369C-01_V (DPAK, 3-Leads, Body 6.54x6.095mm, Pitch 2.29mm)
pins: 1 B, 3 E, 4 C

## NJVMJD112T4G
designator Q?
Complementary Darlington Power Transistor, 3-Pin DPAK, Pb-Free, Tape and Reel; Manufacturer: On Semiconductor; PartNumber: NJVMJD112T4G; hFE Max (k): 12; IC Continuous (A): 2; Polarity: NPN; DatasheetVersion: Rev. 13; PackageVersion: Rev. E, 02/2014; PackageReference: DPAK-3-369C-01; PackageDescription: 3-Pin Flange Mount, Body 6.54 x 6.095 mm, Pitch 2.29 mm; Supplier 1: Digi-Key; Supplier Part Number 1: NJVMJD112T4G-ND; Supplier 2: Newark; Supplier Part Number 2: 65T1467; Supplier 3: Mouser; Supplier Part Number 3: 863-NJVMJD112T4G; Packing: Tape and Reel; RoHS: TRUE; Mounting Technology: Surface Mount; ComponentLink1Description: Manufacturer URL; ComponentLink1URL: http://www.onsemi.com/; ComponentLink2Description: Datasheet; ComponentLink2URL: http://www.onsemi.com/pub_link/Collateral/MJD112-D.PDF; ComponentLink3Description: Package Specification; ComponentLink3URL: http://www.onsemi.cn/pub_link/Collateral/369C.PDF
footprint ONSC-DPAK-3-369C-01_V (DPAK, 3-Leads, Body 6.54x6.095mm, Pitch 2.29mm)
pins: 1 B, 3 E, 4 C

## NJVMJD117T4G
designator Q?
Complementary Darlington Power Transistor, 3-Pin DPAK, Pb-Free, Tape and Reel; Manufacturer: On Semiconductor; PartNumber: NJVMJD117T4G; hFE Max (k): 12; IC Continuous (A): 2; Polarity: PNP; DatasheetVersion: Rev. 13; PackageVersion: Rev. E, 02/2014; PackageReference: DPAK-3-369C-01; PackageDescription: 3-Pin Flange Mount, Body 6.54 x 6.095 mm, Pitch 2.29 mm; Supplier 1: Digi-Key; Supplier Part Number 1: NJVMJD117T4G-ND; Supplier 2: Mouser; Supplier Part Number 2: 863-NJVMJD117T4G; Packing: Tape and Reel; RoHS: TRUE; Mounting Technology: Surface Mount; ComponentLink1Description: Manufacturer URL; ComponentLink1URL: http://www.onsemi.com/; ComponentLink2Description: Datasheet; ComponentLink2URL: http://www.onsemi.com/pub_link/Collateral/MJD112-D.PDF; ComponentLink3Description: Package Specification; ComponentLink3URL: http://www.onsemi.cn/pub_link/Collateral/369C.PDF
footprint ONSC-DPAK-3-369C-01_V (DPAK, 3-Leads, Body 6.54x6.095mm, Pitch 2.29mm)
pins: 1 B, 3 E, 4 C

## NJVMJD122T4G
designator Q?
Complementary Darlington Power Transistor, 3-Pin DPAK, Pb-Free, Tape and Reel; Manufacturer: On Semiconductor; PartNumber: NJVMJD122T4G; hFE Max (k): 12; IC Continuous (A): 8; Polarity: NPN; DatasheetVersion: Rev. 13; PackageVersion: Rev. E, 02/2014; PackageReference: DPAK-3-369C-01; PackageDescription: 3-Pin Flange Mount, Body 6.54 x 6.095 mm, Pitch 2.29 mm; Supplier 1: Digi-Key; Supplier Part Number 1: NJVMJD122T4GOSTR-ND; Supplier 2: Digi-Key; Supplier Part Number 2: NJVMJD122T4GOSCT-ND; Supplier 3: Digi-Key; Supplier Part Number 3: NJVMJD122T4GOSDKR-ND; Supplier 4: Mouser; Supplier Part Number 4: 863-NJVMJD122T4G; Packing: Tape and Reel; RoHS: TRUE; Mounting Technology: Surface Mount; ComponentLink1Description: Manufacturer URL; ComponentLink1URL: http://www.onsemi.com/; ComponentLink2Description: Datasheet; ComponentLink2URL: http://www.onsemi.com/pub_link/Collateral/MJD122-D.PDF; ComponentLink3Description: Package Specification; ComponentLink3URL: http://www.onsemi.cn/pub_link/Collateral/369C.PDF
footprint ONSC-DPAK-3-369C-01_V (DPAK, 3-Leads, Body 6.54x6.095mm, Pitch 2.29mm)
pins: 1 B, 3 E, 4 C

## NJVMJD128T4G
designator Q?
Complementary Darlington Power Transistor, 3-Pin DPAK, Pb-Free, Tape and Reel; Manufacturer: On Semiconductor; PartNumber: NJVMJD128T4G; hFE Max (k): 12; IC Continuous (A): 8; Polarity: PNP; DatasheetVersion: Rev. 5; PackageVersion: Rev. E, 02/2014; PackageReference: DPAK-3-369C-01; PackageDescription: 3-Pin Flange Mount, Body 6.54 x 6.095 mm, Pitch 2.29 mm; Supplier 1: Digi-Key; Supplier Part Number 1: NJVMJD128T4G-ND; Supplier 2: Mouser; Supplier Part Number 2: 863-NJVMJD128T4G; Packing: Tape and Reel; RoHS: TRUE; Mounting Technology: Surface Mount; ComponentLink1Description: Manufacturer URL; ComponentLink1URL: http://www.onsemi.com/; ComponentLink2Description: Datasheet; ComponentLink2URL: http://www.onsemi.com/pub_link/Collateral/MJD128-D.PDF; ComponentLink3Description: Package Specification; ComponentLink3URL: http://www.onsemi.cn/pub_link/Collateral/369C.PDF
footprint ONSC-DPAK-3-369C-01_V (DPAK, 3-Leads, Body 6.54x6.095mm, Pitch 2.29mm)
pins: 1 B, 3 E, 4 C

## NJVMJD148T4G
designator Q?
NPN Silicon Power Transistor, 3-Pin DPAK, Pb-Free, Tape and Reel; Manufacturer: On Semiconductor; PartNumber: NJVMJD148T4G; fT Min (MHz): 3; IC Continuous (A): 4; DatasheetVersion: Rev. 8; PackageVersion: Rev. E, 02/2014; PackageReference: DPAK-3-369C-01; PackageDescription: 3-Pin Flange Mount, Body 6.54 x 6.095 mm, Pitch 2.29 mm; Supplier 1: Digi-Key; Supplier Part Number 1: NJVMJD148T4G-ND; Supplier 2: Mouser; Supplier Part Number 2: 863-NJVMJD148T4G; Packing: Tape and Reel; Polarity: NPN; RoHS: TRUE; Mounting Technology: Surface Mount; ComponentLink1Description: Manufacturer URL; ComponentLink1URL: http://www.onsemi.com/; ComponentLink2Description: Datasheet; ComponentLink2URL: http://www.onsemi.cn/pub_link/Collateral/MJD148-D.PDF; ComponentLink3Description: Package Specification; ComponentLink3URL: http://www.onsemi.cn/pub_link/Collateral/369C.PDF
footprint ONSC-DPAK-3-369C-01_V (DPAK, 3-Leads, Body 6.54x6.095mm, Pitch 2.29mm)
pins: 1 B, 3 E, 4 C

## NJVMJD210T4G
designator Q?
Complementary Plastic Power Transistor, PNP Silicon, 3-Pin DPAK, Pb-Free, Tape and Reel; Manufacturer: On Semiconductor; PartNumber: NJVMJD210T4G; fT Min (MHz): 65; IC Continuous (A): 5; DatasheetVersion: Rev. 13; PackageVersion: Rev. E, 02/2014; PackageReference: DPAK-3-369C-01; PackageDescription: 3-Pin Flange Mount, Body 6.54 x 6.095 mm, Pitch 2.29 mm; Supplier 1: Newark; Supplier Part Number 1: 97W6306; Supplier 2: Mouser; Supplier Part Number 2: 863-NJVMJD210T4G; Packing: Tape and Reel; Polarity: PNP; RoHS: TRUE; Mounting Technology: Surface Mount; ComponentLink1Description: Manufacturer URL; ComponentLink1URL: http://www.onsemi.com/; ComponentLink2Description: Datasheet; ComponentLink2URL: http://www.onsemi.cn/pub_link/Collateral/MJD200-D.PDF; ComponentLink3Description: Package Specification; ComponentLink3URL: http://www.onsemi.cn/pub_link/Collateral/369C.PDF
footprint ONSC-DPAK-3-369C-01_V (DPAK, 3-Leads, Body 6.54x6.095mm, Pitch 2.29mm)
pins: 1 B, 3 E, 4 C

## NJVMJD340T4G
designator Q?
High Voltage Power Transistor, 3-Pin DPAK, Pb-Free, Tape and Reel; Manufacturer: On Semiconductor; PartNumber: NJVMJD340T4G; fT Min (MHz): 10; IC Continuous (A): 0.5; Polarity: NPN; DatasheetVersion: Rev. 11; PackageVersion: Rev. E, 02/2014; PackageReference: DPAK-3-369C-01; PackageDescription: 3-Pin Flange Mount, Body 6.54 x 6.095 mm, Pitch 2.29 mm; Supplier 1: Digi-Key; Supplier Part Number 1: NJVMJD340T4G-ND; Supplier 2: Mouser; Supplier Part Number 2: 863-NJVMJD340T4G; Packing: Tape and Reel; RoHS: TRUE; Mounting Technology: Surface Mount; ComponentLink1Description: Manufacturer URL; ComponentLink1URL: http://www.onsemi.com/; ComponentLink2Description: Datasheet; ComponentLink2URL: http://www.onsemi.cn/pub_link/Collateral/MJD340-D.PDF; ComponentLink3Description: Package Specification; ComponentLink3URL: http://www.onsemi.cn/pub_link/Collateral/369C.PDF
footprint ONSC-DPAK-3-369C-01_V (DPAK, 3-Leads, Body 6.54x6.095mm, Pitch 2.29mm)
pins: 1 B, 3 E, 4 C